# Altium footprint library Package_TO_SOT_SMD.PcbLib: 132 footprints (part 3 of 9)
Each footprint in its own frame and in the unit in brackets; x right, y up, seen from the top. Pads: shape width x height; smd on the part's side, far side on the other; paste and mask are expansions set on the pad; w line width, h text height; cw(c..) or ccw(c..) is an arc to the next point about the centre after c.
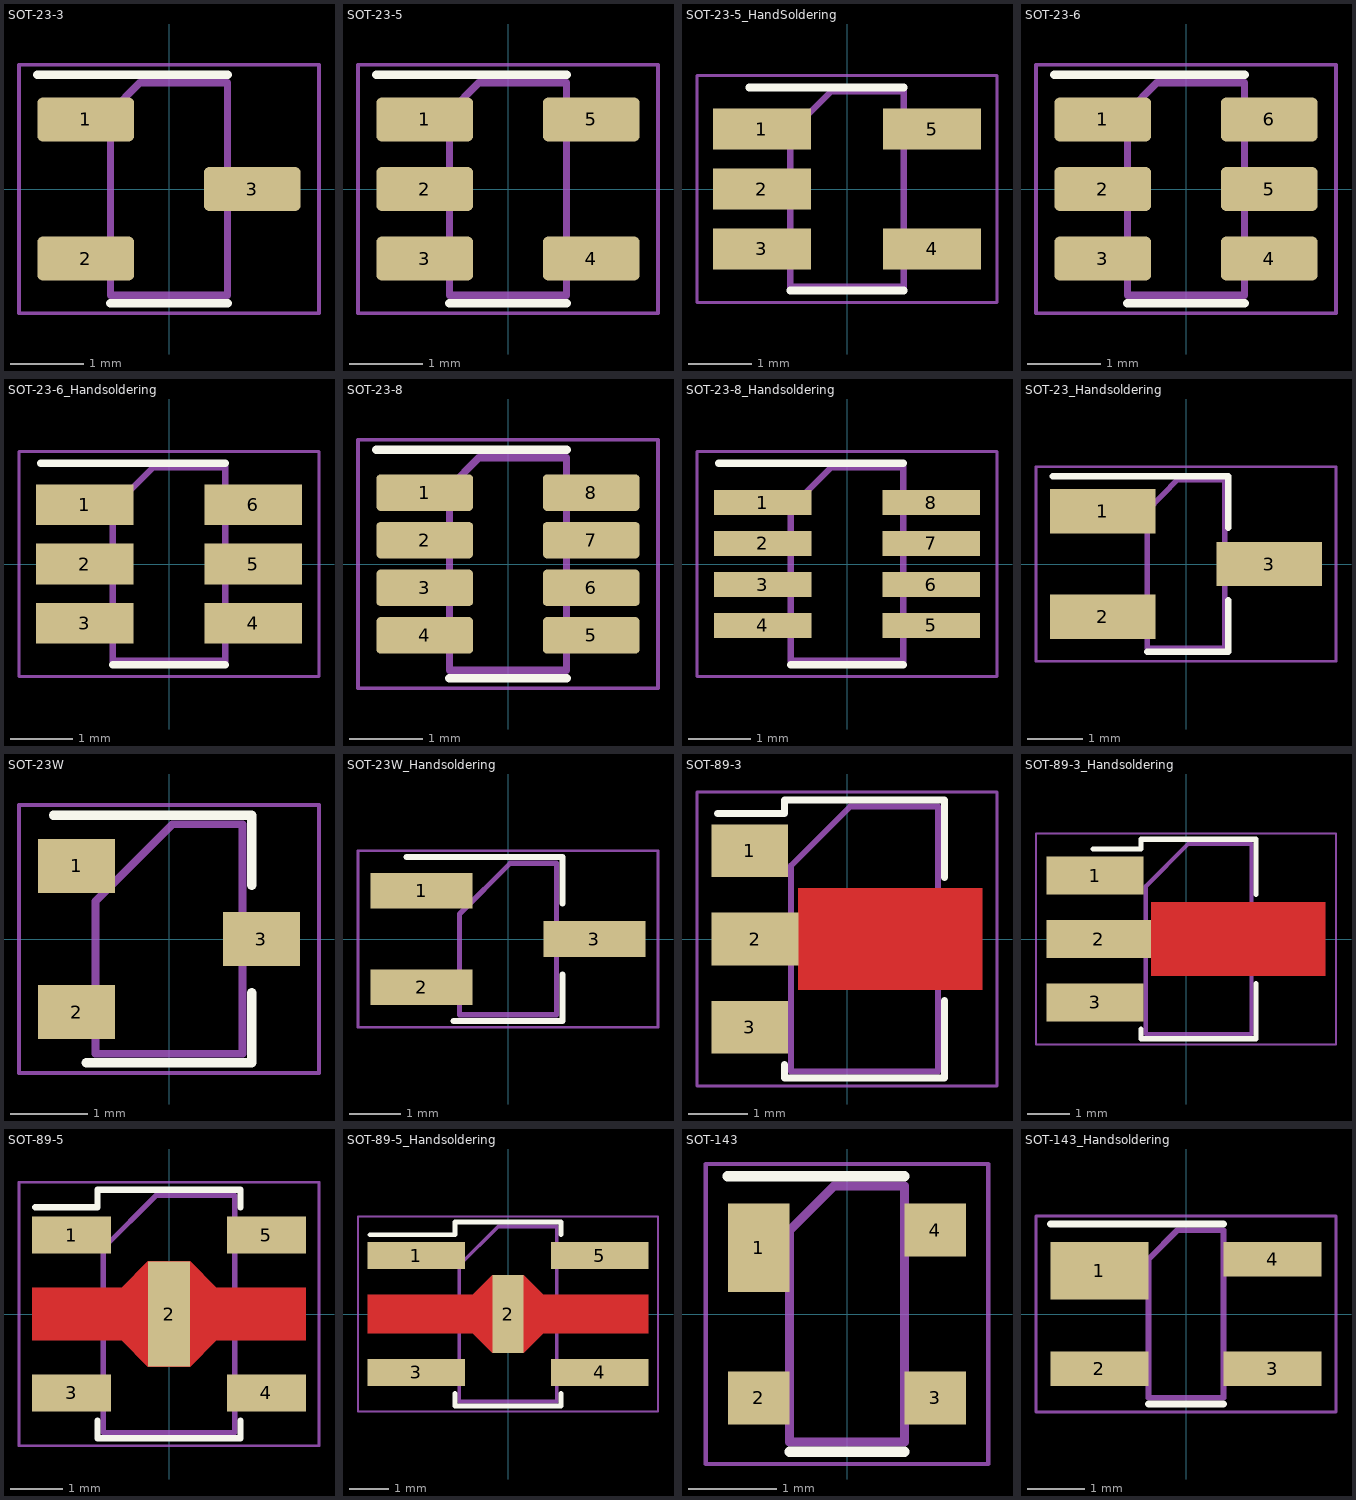
[diagram p2: the footprints below, top view; thin cyan lines are the x and y axes]

## SOT-23-3 [mm]
pads (3):
  rrect25% 1.325x0.6 smd: 1(-1.138,0.95) 2(-1.138,-0.95) 3(1.138,0)
F.SilkS:
  lines w0.12: -1.8,1.56 0,1.56 0.8,1.56 ; -0.8,-1.56 0,-1.56 0.8,-1.56
F.CrtYd:
  lines w0.05: -2.05,-1.7 2.05,-1.7 2.05,1.7 -2.05,1.7 -2.05,-1.7
F.Fab:
  lines w0.1: -0.8,-1.45 -0.8,1.05 -0.4,1.45 0.8,1.45 0.8,-1.45 -0.8,-1.45
  text "'.Designator'" at -1.559,-0.143 h0.4
3D body "SOT-23.step": height 1.2, standoff 0, extent -1.25,-1.5 1.25,1.5

## SOT-23-5 [mm]
pads (5):
  rrect25% 1.325x0.6 smd: 1(-1.138,0.95) 2(-1.138,0) 3(-1.138,-0.95) 4(1.138,-0.95) 5(1.138,0.95)
F.SilkS:
  lines w0.12: -1.8,1.56 0,1.56 0.8,1.56 ; -0.8,-1.56 0,-1.56 0.8,-1.56
F.CrtYd:
  lines w0.05: -2.05,-1.7 2.05,-1.7 2.05,1.7 -2.05,1.7 -2.05,-1.7
F.Fab:
  lines w0.1: -0.8,-1.45 0.8,-1.45 0.8,1.45 -0.4,1.45 -0.8,1.05 -0.8,-1.45
  text "'.Designator'" at -1.559,-0.143 h0.4
3D body "SOT-23-5.step": height 1.55, standoff 0, extent -1.4,-1.45 1.4,1.45

## SOT-23-5_HandSoldering [mm]
pads (5):
  rect 1.56x0.65 smd: 1(-1.35,0.95) 2(-1.35,0) 3(-1.35,-0.95) 4(1.35,-0.95) 5(1.35,0.95)
F.SilkS:
  lines w0.12: -1.55,1.61 0.9,1.61 ; -0.9,-1.61 0.9,-1.61
F.CrtYd:
  lines w0.05: -2.38,-1.8 2.38,-1.8 2.38,1.8 -2.38,1.8 -2.38,-1.8
F.Fab:
  lines w0.1: -0.9,-1.55 -0.9,0.9 -0.25,1.55 0.9,1.55 0.9,-1.55 -0.9,-1.55
  text "'.Designator'" at 0.179,-1.948 h0.5
3D body "SOT-23-5.step": height 1.55, standoff 0, extent -1.4,-1.45 1.4,1.45

## SOT-23-6 [mm]
pads (6):
  rrect25% 1.325x0.6 smd: 1(-1.138,0.95) 2(-1.138,0) 3(-1.138,-0.95) 4(1.138,-0.95) 5(1.138,0) 6(1.138,0.95)
F.SilkS:
  lines w0.12: -1.8,1.56 0,1.56 0.8,1.56 ; -0.8,-1.56 0,-1.56 0.8,-1.56
F.CrtYd:
  lines w0.05: -2.05,-1.7 2.05,-1.7 2.05,1.7 -2.05,1.7 -2.05,-1.7
F.Fab:
  lines w0.1: -0.8,-1.45 0.8,-1.45 0.8,1.45 -0.4,1.45 -0.8,1.05 -0.8,-1.45
  text "'.Designator'" at -1.559,-0.143 h0.4
3D body "SOT-23-6.step": height 1.55, standoff 0, extent -1.4,-1.45 1.4,1.45

## SOT-23-6_Handsoldering [mm]
pads (6):
  rect 1.56x0.65 smd: 1(-1.35,0.95) 2(-1.35,0) 3(-1.35,-0.95) 4(1.35,-0.95) 5(1.35,0) 6(1.35,0.95)
F.SilkS:
  lines w0.12: -2.05,1.61 0.9,1.61 ; -0.9,-1.61 0.9,-1.61
F.CrtYd:
  lines w0.05: -2.4,-1.8 2.4,-1.8 2.4,1.8 -2.4,1.8 -2.4,-1.8
F.Fab:
  lines w0.1: -0.9,-1.55 -0.9,0.9 -0.25,1.55 0.9,1.55 0.9,-1.55 -0.9,-1.55
  text "'.Designator'" at 0.179,-1.948 h0.5
3D body "SOT-23-6.step": height 1.55, standoff 0, extent -1.4,-1.45 1.4,1.45

## SOT-23-8 [mm]
pads (8):
  rrect25% 1.325x0.5 smd: 1(-1.138,0.975) 2(-1.138,0.325) 3(-1.138,-0.325) 4(-1.138,-0.975) 5(1.138,-0.975) 6(1.138,-0.325) 7(1.138,0.325) 8(1.138,0.975)
F.SilkS:
  lines w0.12: -1.8,1.56 0,1.56 0.8,1.56 ; -0.8,-1.56 0,-1.56 0.8,-1.56
F.CrtYd:
  lines w0.05: -2.05,-1.7 2.05,-1.7 2.05,1.7 -2.05,1.7 -2.05,-1.7
F.Fab:
  lines w0.1: -0.8,-1.45 0.8,-1.45 0.8,1.45 -0.4,1.45 -0.8,1.05 -0.8,-1.45
  text "'.Designator'" at -1.559,-0.143 h0.4

## SOT-23-8_Handsoldering [mm]
pads (8):
  rect 1.56x0.4 smd: 1(-1.35,0.98) 2(-1.35,0.33) 3(-1.35,-0.33) 4(-1.35,-0.98) 5(1.35,-0.98) 6(1.35,-0.33) 7(1.35,0.33) 8(1.35,0.98)
F.SilkS:
  lines w0.12: -2.05,1.61 0.9,1.61 ; -0.9,-1.61 0.9,-1.61
F.CrtYd:
  lines w0.05: -2.4,-1.8 2.4,-1.8 2.4,1.8 -2.4,1.8 -2.4,-1.8
F.Fab:
  lines w0.1: -0.9,-1.55 -0.9,0.9 -0.25,1.55 0.9,1.55 0.9,-1.55 -0.9,-1.55
  text "'.Designator'" at 0.179,-1.948 h0.5

## SOT-23_Handsoldering [mm]
pads (3):
  rect 1.9x0.8 smd: 1(-1.5,0.95) 2(-1.5,-0.95) 3(1.5,0)
F.SilkS:
  lines w0.12: -2.4,1.58 0.76,1.58 0.76,0.65 ; -0.7,-1.58 0.76,-1.58 0.76,-0.65
F.CrtYd:
  lines w0.05: -2.7,-1.75 -2.7,1.75 2.7,1.75 2.7,-1.75 -2.7,-1.75
F.Fab:
  lines w0.1: -0.7,-1.52 0.7,-1.52 0.7,1.52 -0.15,1.52 -0.7,0.95 -0.7,-1.5
  text "'.Designator'" at 0.179,-1.948 h0.5

## SOT-23W [mm]
pads (3):
  rect 1x0.7 smd: 1(-1.2,0.95) 2(-1.2,-0.95) 3(1.2,0)
F.SilkS:
  lines w0.12: -1.5,1.61 1.075,1.61 1.075,0.7 ; -1.075,-1.61 1.075,-1.61 1.075,-0.7
F.CrtYd:
  lines w0.05: -1.95,-1.74 1.95,-1.74 1.95,1.74 -1.95,1.74 -1.95,-1.74
F.Fab:
  lines w0.1: -0.955,-1.49 -0.955,0.49 0.045,1.49 0.955,1.49 0.955,-1.49 -0.955,-1.49
  text "'.Designator'" at 0.179,-1.948 h0.5

## SOT-23W_Handsoldering [mm]
pads (3):
  rect 2x0.7 smd: 1(-1.7,0.95) 2(-1.7,-0.95) 3(1.7,0)
F.SilkS:
  lines w0.12: -2,1.61 1.075,1.61 ; -1.075,-1.61 1.075,-1.61 1.075,-0.7 ; 1.075,0.7 1.075,1.6
F.CrtYd:
  lines w0.05: -2.95,-1.74 -2.95,1.74 2.95,1.74 2.95,-1.74 -2.95,-1.74
F.Fab:
  lines w0.1: -0.955,-1.49 0.955,-1.49 0.955,1.49 0.045,1.49 -0.955,0.49 -0.955,-1.49
  text "'.Designator'" at 0.179,-1.948 h0.5

## SOT-89-3 [mm]
pads (3):
  rect 1.3x0.9 smd: 1(-1.65,1.5) 3(-1.65,-1.5)
  rect 1.475x0.9 smd: 2(-1.562,0)
F.Cu:
  region: 2.3,-0.867 -0.825,-0.867 -0.825,0.867 2.3,0.867
F.SilkS:
  lines w0.12: -2.2,2.13 -1.06,2.13 -1.06,2.36 1.66,2.36 1.66,1.05 ; -1.06,-2.13 -1.06,-2.36 1.66,-2.36 1.66,-1.05
F.Paste:
  region: 2.3,-0.867 -0.825,-0.867 -0.825,0.867 2.3,0.867
F.Mask:
  region: 2.3,-0.867 -0.825,-0.867 -0.825,0.867 2.3,0.867
F.CrtYd:
  lines w0.05: -2.55,-2.5 2.55,-2.5 2.55,2.5 -2.55,2.5 -2.55,-2.5
F.Fab:
  lines w0.1: -0.95,-2.25 -0.95,1.25 0.05,2.25 1.55,2.25 1.55,-2.25 -0.95,-2.25
  text "'.Designator'" at 0.357,-3.897 h1

## SOT-89-3_Handsoldering [mm]
pads (3):
  rect 2.3x0.9 smd: 1(-2.15,1.5) 3(-2.15,-1.5)
  rect 2.475x0.9 smd: 2(-2.063,0)
F.Cu:
  region: 3.3,-0.867 -0.825,-0.867 -0.825,0.867 3.3,0.867
F.SilkS:
  lines w0.12: -2.2,2.13 -1.06,2.13 -1.06,2.36 1.66,2.36 1.66,1.05 ; -1.06,-2.13 -1.06,-2.36 1.66,-2.36 1.66,-1.05
F.Paste:
  region: 3.3,-0.867 -0.825,-0.867 -0.825,0.867 3.3,0.867
F.Mask:
  region: 3.3,-0.867 -0.825,-0.867 -0.825,0.867 3.3,0.867
F.CrtYd:
  lines w0.05: -3.55,-2.5 -3.55,2.5 3.55,2.5 3.55,-2.5 -3.55,-2.5
F.Fab:
  lines w0.1: -0.95,-2.25 -0.95,1.25 0.05,2.25 1.55,2.25 1.55,-2.25 -0.95,-2.25
  text "'.Designator'" at 0.357,-3.897 h1

## SOT-89-5 [mm]
pads (5):
  rect 1.5x0.7 smd: 1(-1.85,1.5) 3(-1.85,-1.5) 4(1.85,-1.5) 5(1.85,1.5)
  rect 0.8x2 smd: 2(0,0)
F.Cu:
  region: 0.9,0.5 2.6,0.5 2.6,-0.5 0.9,-0.5 0.4,-1 -0.4,-1 -0.9,-0.5 -2.6,-0.5 -2.6,0.5 -0.9,0.5 -0.4,1 0.4,1
F.SilkS:
  lines w0.12: -2.54,2.03 -1.36,2.03 -1.36,2.36 1.36,2.36 1.36,2.03 ; -1.36,-2.03 -1.36,-2.36 1.36,-2.36 1.36,-2.03
F.Paste:
  region: 0.9,0.5 2.6,0.5 2.6,-0.5 0.9,-0.5 0.4,-1 -0.4,-1 -0.9,-0.5 -2.6,-0.5 -2.6,0.5 -0.9,0.5 -0.4,1 0.4,1
F.Mask:
  region: 0.9,0.5 2.6,0.5 2.6,-0.5 0.9,-0.5 0.4,-1 -0.4,-1 -0.9,-0.5 -2.6,-0.5 -2.6,0.5 -0.9,0.5 -0.4,1 0.4,1
F.CrtYd:
  lines w0.05: -2.85,-2.5 2.85,-2.5 2.85,2.5 -2.85,2.5 -2.85,-2.5
F.Fab:
  lines w0.1: -1.25,-2.25 -1.25,1.25 -0.25,2.25 1.25,2.25 1.25,-2.25 -1.25,-2.25
  text "'.Designator'" at 0.357,-3.897 h1

## SOT-89-5_Handsoldering [mm]
pads (5):
  rect 2.5x0.7 smd: 1(-2.35,1.5) 3(-2.35,-1.5) 4(2.35,-1.5) 5(2.35,1.5)
  rect 0.8x2 smd: 2(0,0)
F.Cu:
  region: 0.9,0.5 3.6,0.5 3.6,-0.5 0.9,-0.5 0.4,-1 -0.4,-1 -0.9,-0.5 -3.6,-0.5 -3.6,0.5 -0.9,0.5 -0.4,1 0.4,1
F.SilkS:
  lines w0.12: -3.54,2.03 -1.36,2.03 -1.36,2.36 1.36,2.36 1.36,2.03 ; -1.36,-2.03 -1.36,-2.36 1.36,-2.36 1.36,-2.03
F.Paste:
  region: 0.9,0.5 3.6,0.5 3.6,-0.5 0.9,-0.5 0.4,-1 -0.4,-1 -0.9,-0.5 -3.6,-0.5 -3.6,0.5 -0.9,0.5 -0.4,1 0.4,1
F.Mask:
  region: 0.9,0.5 3.6,0.5 3.6,-0.5 0.9,-0.5 0.4,-1 -0.4,-1 -0.9,-0.5 -3.6,-0.5 -3.6,0.5 -0.9,0.5 -0.4,1 0.4,1
F.CrtYd:
  lines w0.05: -3.85,-2.5 -3.85,2.5 3.85,2.5 3.85,-2.5 -3.85,-2.5
F.Fab:
  lines w0.1: -1.25,-2.25 1.25,-2.25 1.25,2.25 -0.25,2.25 -1.25,1.25 -1.25,-2.25
  text "'.Designator'" at 0.357,-3.897 h1

## SOT-143 [mm]
pads (4):
  rect 0.7x1 smd: 1(-1,0.75)
  rect 0.7x0.6 smd: 2(-1,-0.95) 3(1,-0.95) 4(1,0.95)
F.SilkS:
  lines w0.12: -1.35,1.56 0.65,1.56 ; -0.65,-1.56 0.65,-1.56
F.CrtYd:
  lines w0.05: -1.6,-1.7 -1.6,1.7 1.6,1.7 1.6,-1.7 -1.6,-1.7
F.Fab:
  lines w0.1: -0.65,-1.45 0.65,-1.45 0.65,1.45 -0.15,1.45 -0.65,0.95 -0.65,-1.45
  text "'.Designator'" at 0.179,-1.948 h0.5

## SOT-143_Handsoldering [mm]
pads (4):
  rect 1.7x1 smd: 1(-1.5,0.75)
  rect 1.7x0.6 smd: 2(-1.5,-0.95) 3(1.5,-0.95) 4(1.5,0.95)
F.SilkS:
  lines w0.12: -2.35,1.56 0.65,1.56 ; -0.65,-1.56 0.65,-1.56
F.CrtYd:
  lines w0.05: -2.6,-1.7 2.6,-1.7 2.6,1.7 -2.6,1.7 -2.6,-1.7
F.Fab:
  lines w0.1: -0.65,-1.45 0.65,-1.45 0.65,1.45 -0.15,1.45 -0.65,0.95 -0.65,-1.45
  text "'.Designator'" at 0.42,-2.023 h0.5